# Altium schematic symbol library Diodes.SchLib: 6 symbols
Pins are listed as number, name and electrical type; pins without a type are passive.

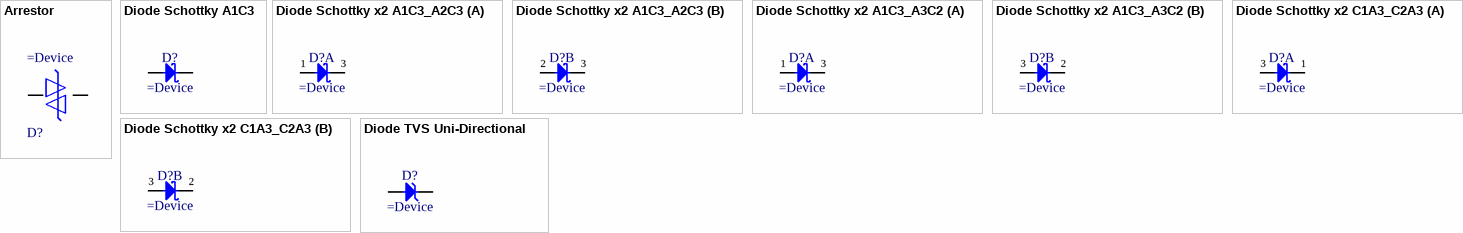
[diagram p0: symbols Arrestor to Diode TVS Uni-Directional]

## Arrestor
designator D?
Trisil™ for telecom equipment protection
pins: 1 C, 2 A

## Diode Schottky A1C3
designator D?
Diode Schottky  Anode Pin 1 Cathode Pin 3 (Pas de pin 2)
pins: 1 A, 3 C

## Diode Schottky x2 A1C3_A2C3
designator D?
Dual Common Cathode Schottky Diodes
part A pins: 1 A, 3 COMC
part B pins: 2 A, 3 COMC

## Diode Schottky x2 A1C3_A3C2
designator D?
Serial Schottky Diode
part A pins: 1 A, 3 COMAC
part B pins: 2 C, 3 COMAC

## Diode Schottky x2 C1A3_C2A3
designator D?
Dual Common Anode Schottky Diode
part A pins: 1 C, 3 COMA
part B pins: 2 C, 3 COMA

## Diode TVS Uni-Directional
designator D?
Transient Voltage Suppressor Diode (Uni-Directional)
pins: 1 C, 2 A